# Altium footprint library normalpot.PcbLib: 1 footprints
Each footprint in its own frame and in the unit in brackets; x right, y up, seen from the top. Pads: shape width x height; smd on the part's side, far side on the other; paste and mask are expansions set on the pad; w line width, h text height; cw(c..) or ccw(c..) is an arc to the next point about the centre after c.
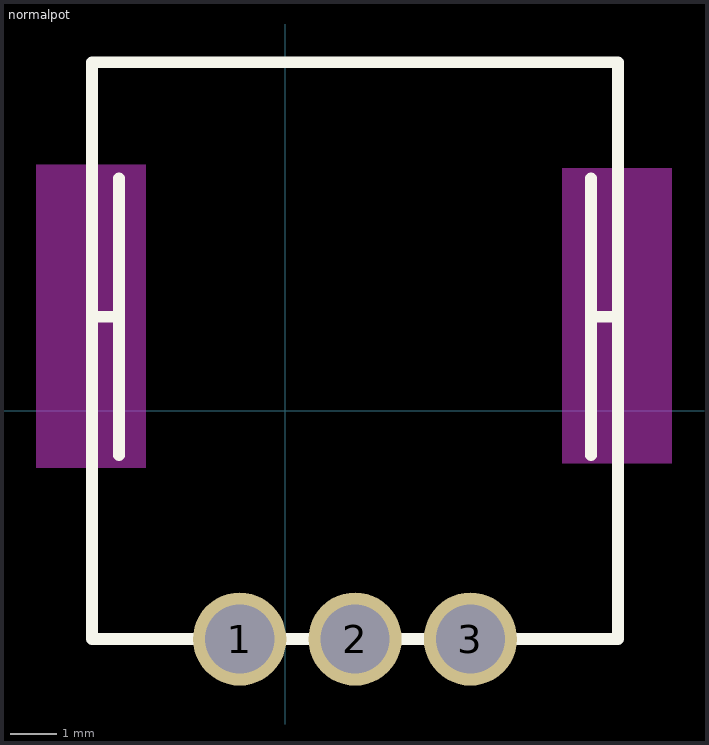
[diagram p0: the footprint, top view; thin cyan lines are the x and y axes]

## normalpot [mil]
pads (3):
  round 79.5 hole 59.06: 1(-39.02,-195) 2(59.41,-195) 3(157.83,-195)
Top Overlay:
  lines w10: -165,296.54 -165,80 -142,80 ; -142,-38.11 -142,80 ; -142,198.11 -142,80 ; -39.02,-195 59.41,-195 157.83,-195 ; 260.82,-38.11 260.82,80 ; 260.82,198.11 260.82,80 ; 283.82,296.54 283.82,80 260.82,80 ; -165,-195 -165,297.13 283.82,297.13 283.82,-195 -165,-195
Keep-Out Layer:
  rectangle: -213,-49 -119,210
  rectangle: 236,-45 330,207